# Altium schematic symbol library 638263122004.SchLib: 1 symbol
Pins are listed as number, name and electrical type; pins without a type are passive.

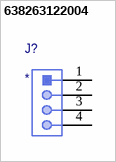
[diagram p0: symbol 638263122004]

## 638263122004
designator J?
pins: 1, 2, 3, 4